# EAGLE library part SWITCH:ADG6__(SPDT) (library QuantumOptics)
ADG619 or 620, SPDT Switch, Analog Devices, bipolar, SPDT. Based on http://www.analog.com/UploadedFiles/Data_Sheets/ADG619_620.pdf.
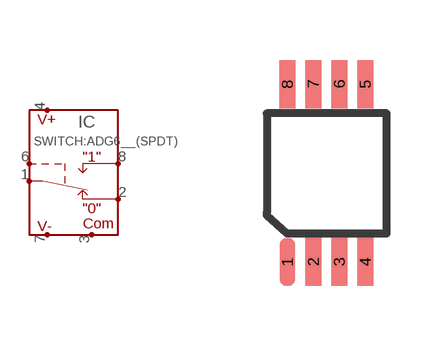
[diagram p102: symbol with the pads of MSOP8; footprint MSOP8]

Designator prefix IC

## SWITCH:ADG6__(SPDT)-MSOP8  [MSOP8]
1  C
2  NC
3  COM
4  V+
6  SW  in
7  V-
8  NO

## Footprint MSOP8 (pad centres in mm)
MSOP-8, A.K.A. RM-8. Use 0.025" grid.
smd 0.4 x 1.2: 1 -0.65,-1.905; 2 0,-1.905; 3 0.65,-1.905; 4 1.3,-1.905; 5 1.3,2.54; 6 0.65,2.54; 7 0,2.54; 8 -0.65,2.54